# EAGLE library part MATCHING_TRANSFORMER (library BaseApp)
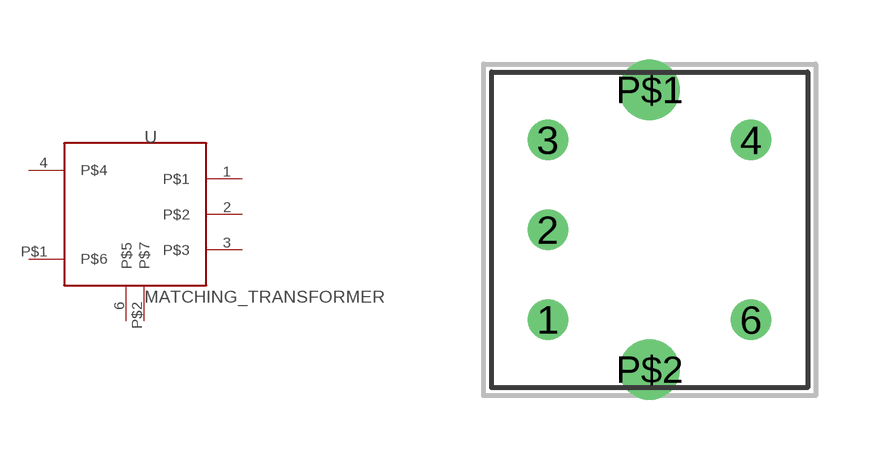
[diagram p154: symbol with the pads of MATCHING_TRANSFORMER; footprint MATCHING_TRANSFORMER]

Designator prefix -

## MATCHING_TRANSFORMER (ELEMENT14: K4000001; PRICE_PER_UNIT: 1.58)  [MATCHING_TRANSFORMER]
1  P$1
2  P$2
3  P$3
4  P$4
6  P$5
P$1  P$6
P$2  P$7

## Footprint MATCHING_TRANSFORMER (pad centres in mm)
drill 0.5: 1 -2.54,-2.25; 2 -2.54,0; 3 -2.54,2.25; 4 2.54,2.25; 6 2.54,-2.25
drill 1: P$1 0,3.5; P$2 0,-3.5